# Altium footprint library VLF4012A.PcbLib: 1 footprints
Each footprint in its own frame and in the unit in brackets; x right, y up, seen from the top. Pads: shape width x height; smd on the part's side, far side on the other; paste and mask are expansions set on the pad; w line width, h text height; cw(c..) or ccw(c..) is an arc to the next point about the centre after c.
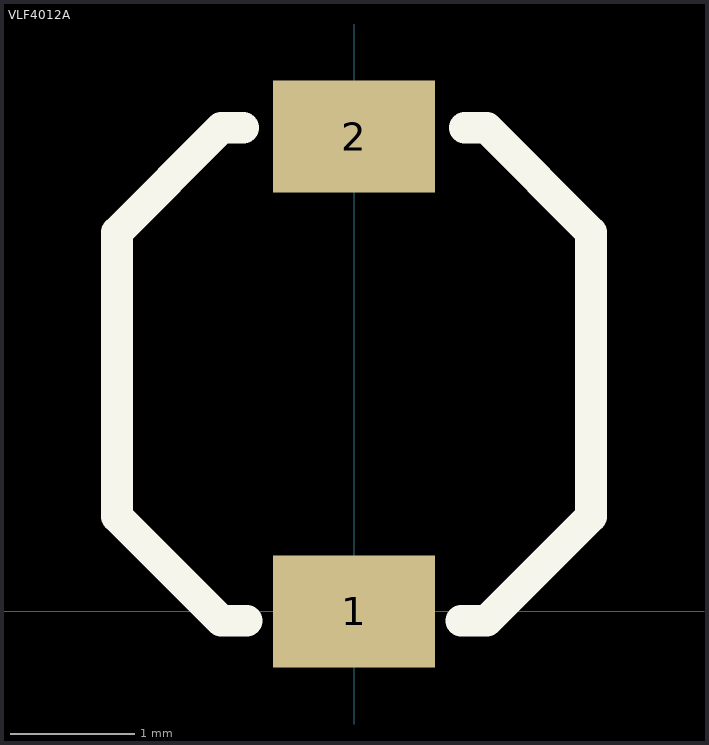
[diagram p0: the footprint, top view; thin cyan lines are the x and y axes]

## VLF4012A [mm]
pads (2):
  rect 1.3x0.9 smd: 1(0,0) 2(0,3.815)
TopOverlay:
  lines w0.254: -0.889,3.886 -1.067,3.886 -1.905,3.048 -1.905,0.762 -1.067,-0.076 -0.864,-0.076 ; 0.864,-0.076 1.067,-0.076 1.905,0.762 1.905,3.048 1.067,3.886 0.889,3.886
3D body: height 1.2, standoff 0.01, extent -1.778,0.051 1.778,3.759